# Altium schematic symbol library Opto.SchLib: 1 symbol
Pins are listed as number, name and electrical type; pins without a type are passive.

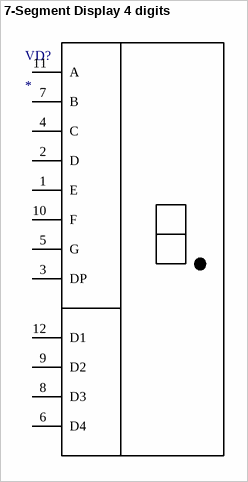
[diagram p0: symbol 7-Segment Display 4 digits]

## 7-Segment Display 4 digits
designator VD?
HelpURL: *; Manufacturer: *; Package: *; PartNumber: *
footprint LED: 7SEG 4DIG 0.56''
pins: 1 E, 2 D, 3 DP, 4 C, 5 G, 6 D4, 7 B, 8 D3, 9 D2, 10 F, 11 A, 12 D1